# Altium schematic symbol library QTx.SchLib: 2 symbols
Pins are listed as number, name and electrical type; pins without a type are passive.

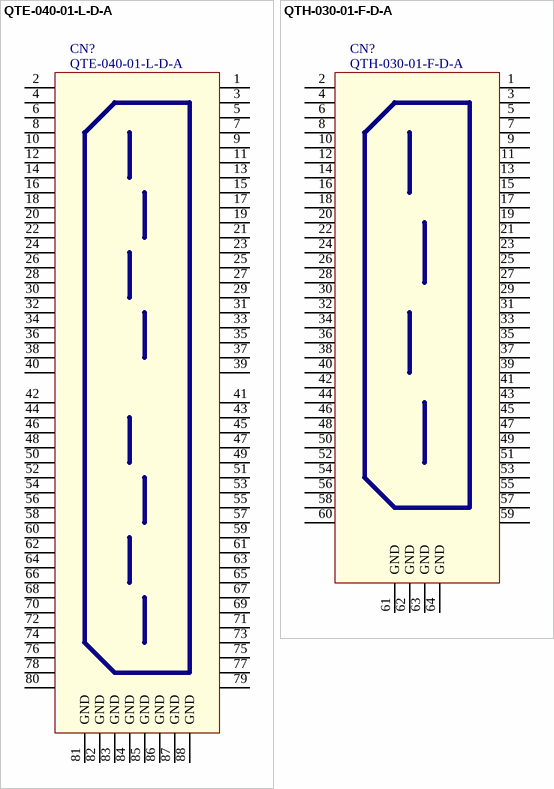
[diagram p0: symbols QTE-040-01-L-D-A to QTH-030-01-F-D-A]

## QTE-040-01-L-D-A
designator CN?
CONN HEADER 80POS 0.8MM SMT; value: QTE-040-01-L-D-A
footprint QTE-040-01-L-D-A (CONN HEADER 80POS 0.8MM SMT)
pins: 1, 2, 3, 4, 5, 6, 7, 8, 9, 10, 11, 12, 13, 14, 15, 16, 17, 18, 19, 20, 21, 22, 23, 24, 25, 26, 27, 28, 29, 30, 31, 32, 33, 34, 35, 36, 37, 38, 39, 40, 41, 42, 43, 44, 45, 46, 47, 48, 49, 50, 51, 52, 53, 54, 55, 56, 57, 58, 59, 60, 61, 62, 63, 64, 65, 66, 67, 68, 69, 70, 71, 72, 73, 74, 75, 76, 77, 78, 79, 80, 81 GND, 82 GND, 83 GND, 84 GND, 85 GND, 86 GND, 87 GND, 88 GND

## QTH-030-01-F-D-A
designator CN?
CONN HEADER 60POS 0.5MM SMT; value: QTH-030-01-F-D-A
footprint QSH-030-01-F-D-A (CONN HEADER 60POS 0.5MM SMT)
pins: 1, 2, 3, 4, 5, 6, 7, 8, 9, 10, 11, 12, 13, 14, 15, 16, 17, 18, 19, 20, 21, 22, 23, 24, 25, 26, 27, 28, 29, 30, 31, 32, 33, 34, 35, 36, 37, 38, 39, 40, 41, 42, 43, 44, 45, 46, 47, 48, 49, 50, 51, 52, 53, 54, 55, 56, 57, 58, 59, 60, 61 GND, 62 GND, 63 GND, 64 GND